# Altium footprint library RF Receivers.PcbLib: 1 footprints
Each footprint in its own frame and in the unit in brackets; x right, y up, seen from the top. Pads: shape width x height; smd on the part's side, far side on the other; paste and mask are expansions set on the pad; w line width, h text height; cw(c..) or ccw(c..) is an arc to the next point about the centre after c.
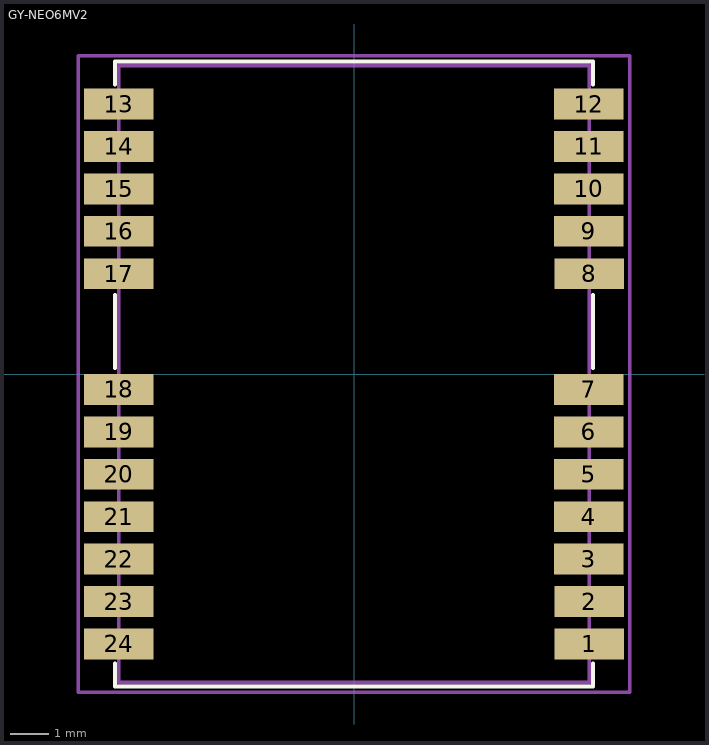
[diagram p0: the footprint, top view; thin cyan lines are the x and y axes]

## GY-NEO6MV2 [mm]
pads (24):
  rect 1.8x0.8 smd mask+0.05: 1(6.1,-7) 2(6.1,-5.9) 3(6.092,-4.8) 4(6.092,-3.7) 5(6.092,-2.6) 6(6.092,-1.5) 7(6.092,-0.4) 8(6.1,2.6) 9(6.092,3.7) 10(6.092,4.8) 11(6.092,5.9) 12(6.092,7) 13(-6.1,7) 14(-6.1,5.9) 15(-6.1,4.8) 16(-6.1,3.7) 17(-6.1,2.6) 18(-6.1,-0.4) 19(-6.1,-1.5) 20(-6.1,-2.6) 21(-6.1,-3.7) 22(-6.1,-4.8) 23(-6.1,-5.9) 24(-6.1,-7)
Top Overlay:
  lines w0.1: -6.2,-7.5 -6.2,-8.1 6.2,-8.1 6.2,-7.5 ; -6.2,0.15 -6.2,2.05 ; -6.2,7.5 -6.2,8.1 6.2,8.1 6.2,7.5 ; 6.2,0.15 6.2,2.05
Top 3D Body:
  lines w0.1: -6.1,-8 6.1,-8 6.1,8 -6.1,8 -6.1,-8
Top Component Center:
  lines w0.1: -7.15,7.45 -7.15,8.25 7.15,8.25 7.15,-8.25 -7.15,-8.25 -7.15,7.85
Top Designator:
  lines w0.1: -7.15,-8.25 -7.15,8.25 7.15,8.25 7.15,-8.25 -7.15,-8.25
  text ".Designator" at -0.05,-0.033 h0.5
3D body "NEO-M8N.STEP": height 2.6, standoff 0, extent -6.1,-8 6.1,8